# Altium footprint library EMI_FILTER.PcbLib: 17 footprints (part 2 of 2)
Each footprint in its own frame and in the unit in brackets; x right, y up, seen from the top. Pads: shape width x height; smd on the part's side, far side on the other; paste and mask are expansions set on the pad; w line width, h text height; cw(c..) or ccw(c..) is an arc to the next point about the centre after c.
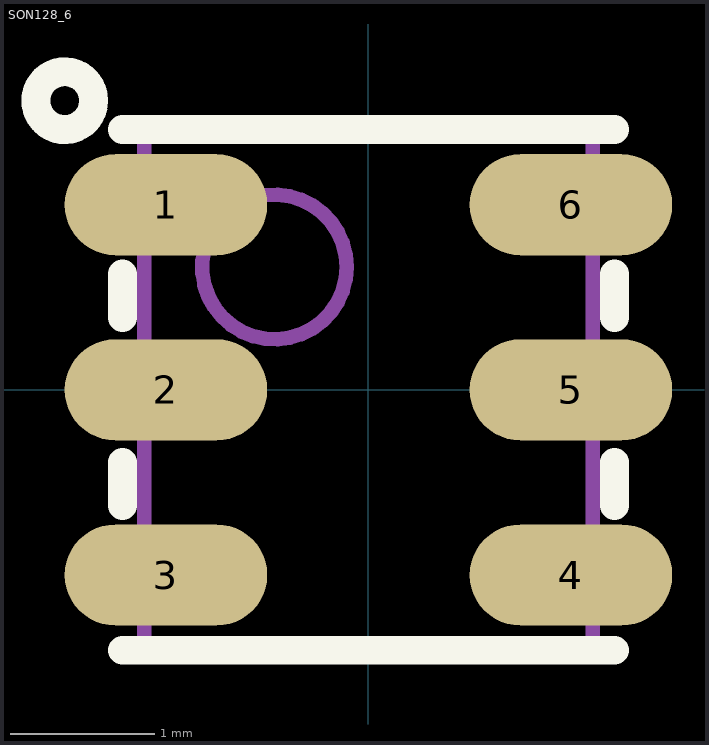
[diagram p1: the footprint, top view; thin cyan lines are the x and y axes]

## SON128_6 [mm] "SFECF10M7, 3.1X3.45X1.3mm, 1.28mm pitch"
height 1.3
pads (6):
  oval 1.4x0.7 smd paste-0.05: 1(-1.4,1.28) 2(-1.4,0) 3(-1.4,-1.28) 4(1.4,-1.28) 5(1.4,0) 6(1.4,1.28)
Top Overlay:
  circle w0.2: c-2.1,2 r0.2
  lines w0.2: -1.7,-1.8 1.7,-1.8 ; -1.7,-0.8 -1.7,-0.5 ; -1.7,0.5 -1.7,0.8 ; -1.7,1.8 1.7,1.8 ; 1.7,-0.8 1.7,-0.5 ; 1.7,0.5 1.7,0.8
Mechanical 13:
  circle w0.1: c-0.65,0.85 r0.5
  lines w0.1: -1.55,-1.75 1.55,-1.75 1.55,1.75 -1.55,1.75 -1.55,-1.75
3D body "QFN127P600-8N.step": height 1.3, standoff 0, extent -1.551,-1.75 1.551,1.75